# Altium schematic symbol library TX2M.Schlib: 1 symbol
Pins are listed as number, name and electrical type; pins without a type are passive.

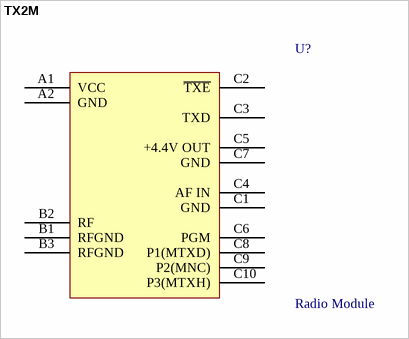
[diagram p0: symbol TX2M]

## TX2M
designator U?, comment Radio Module
pins: A1 VCC, A2 GND, B1 RFGND, B2 RF, B3 RFGND, C1 GND (power), C2 ~{TXE}, C3 TXD, C4 AF IN, C5 +4.4V OUT, C6 PGM, C7 GND, C8 P1(MTXD), C9 P2(MNC), C10 P3(MTXH)
1 alternate drawing of the same symbol